# Altium schematic symbol library AngleVu.SchLib: 116 symbols
Pins are listed as number, name and electrical type; pins without a type are passive.

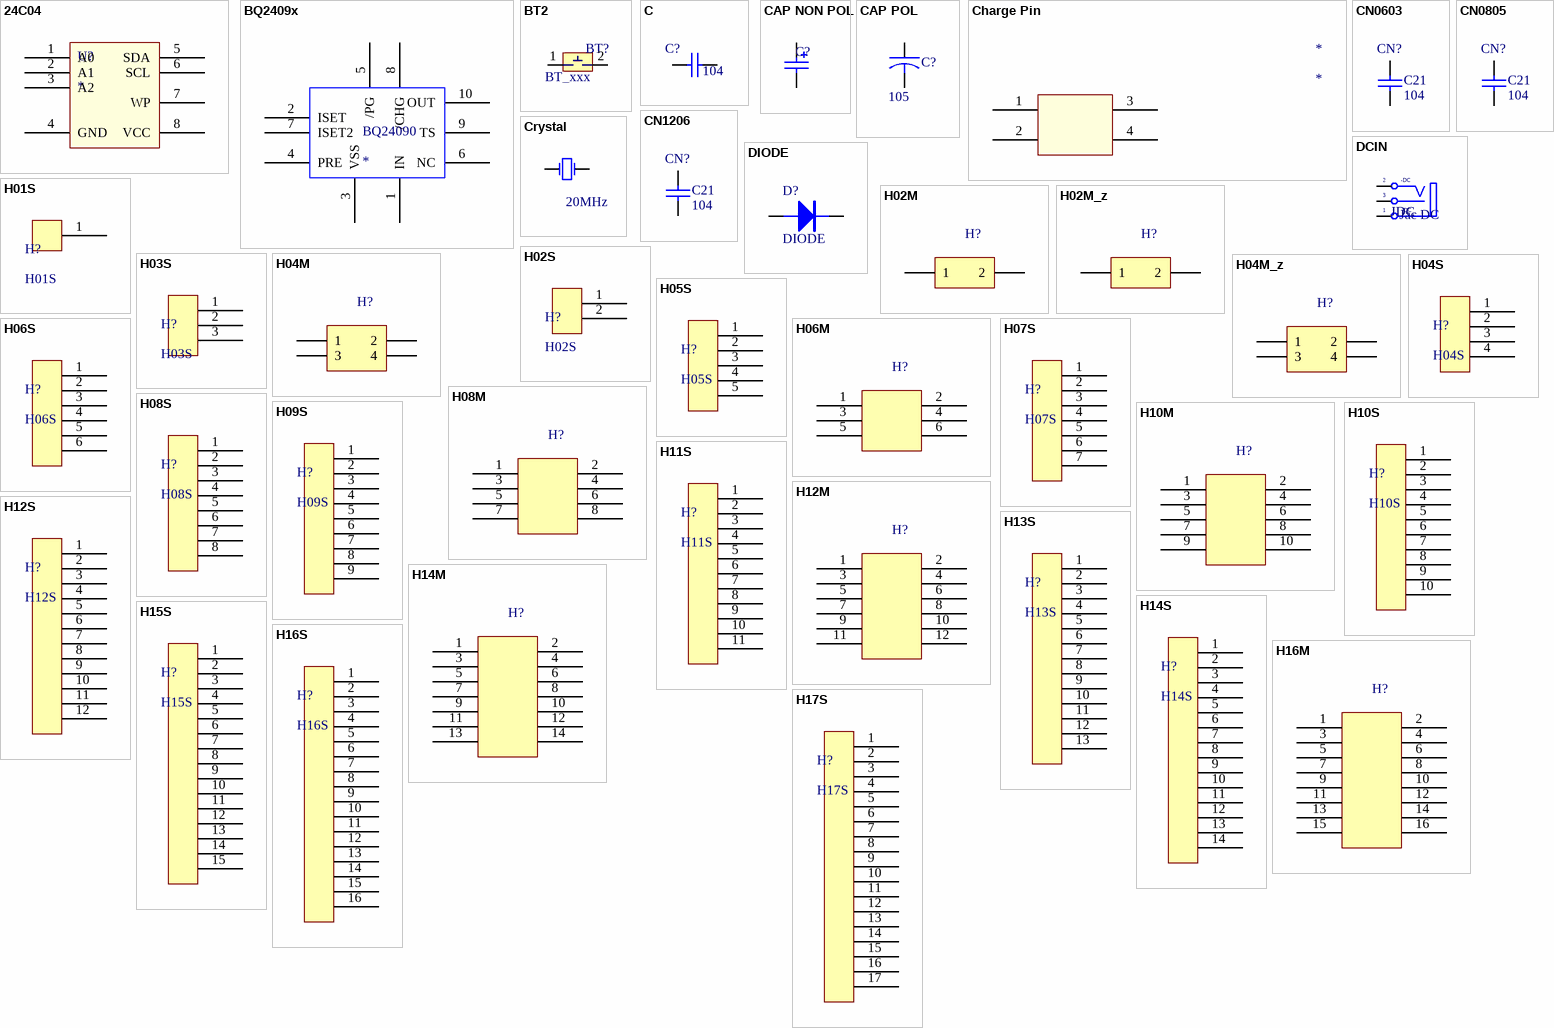
[diagram p0: symbols 24C04 to H17S]

## 24C04
designator U?
footprint 24C04SOIC
pins: 1 A0, 2 A1, 3 A2, 4 GND, 5 SDA, 6 SCL, 7 WP, 8 VCC

## BQ2409x
designator BQ24090
footprint BQ2409x
pins: 1 IN, 2 ISET, 3 VSS, 4 PRE, 5 /PG, 6 NC, 7 ISET2, 8 /CHG, 9 TS, 10 OUT

## BT2
designator BT?, comment BUTTON  (value not drawn)
footprint SW2-SMD (Switch SMD type)
pins: 1, 2
text: BT_xxx

## C
designator C?, comment value 104  (hidden comment: Value)
footprint C1206
footprint 0402
footprint 0805 (Compoment SMD 80x50mil)
pins: 1, 2

## CAP NON POL
designator C?  (value not drawn)
Polarized Capacitor (Surface Mount); VALUE: C?; Value: 1000pF/35V; LatestRevisionDate: 17-Jul-2002; LatestRevisionNote: Re-released for DXP Platform.; PackageReference: C0805; Publisher: Altium Limited
footprint 0805 (Compoment SMD 80x50mil)
pins: 1, 2
1 alternate drawing of the same symbol

## CAP POL
designator C?  value 105  (hidden comment: CAP POL)
Capacitor
footprint RA75
footprint RA50
footprint 1206
footprint 0805 (Compoment SMD 80x50mil)
footprint 0402
pins: 1, 2

## Charge Pin
designator *
pins: 1, 2  , 3  , 4  

## CN0603
designator C21, comment 104  value CN?
Capacitor (Semiconductor SIM Model); LatestRevisionDate: 17-Jul-2002; LatestRevisionNote: Re-released for DXP Platform.; PackageReference: C1206; Publisher: Altium Limited; Value: 104
footprint CNP
pins: 1, 2

## CN0805
designator C21, comment 104  value CN?
Capacitor (Semiconductor SIM Model); LatestRevisionDate: 17-Jul-2002; LatestRevisionNote: Re-released for DXP Platform.; PackageReference: C1206; Publisher: Altium Limited; Value: 104
footprint CNP
pins: 1, 2

## CN1206
designator C21, comment 104  value CN?
Capacitor (Semiconductor SIM Model); LatestRevisionDate: 17-Jul-2002; LatestRevisionNote: Re-released for DXP Platform.; PackageReference: C1206; Publisher: Altium Limited; Value: 104
footprint CNP
pins: 1, 2

## Crystal
designator Y?, comment 20MHz
Crystal Oscillator; Published: 8-Jun-2000; LatestRevisionDate: 17-Jul-2002; LatestRevisionNote: Re-released for DXP Platform.; PackageReference: R38; Publisher: Altium Limited
footprint XT2 (Footpin for Crystal 2 pin)
pins: 1 OSC1, 2 OSC2

## DCIN
designator JDC, comment Jac DC
Jac DC input; Value: Jac DC
footprint DC-IN (Jac DC input)
footprint DC-IN (Jac DC input)
pins: 1 T "Tip", 2 TN "Tip Normal (Break Contact)", 3 S (power) "Sleeve (Ground)"
text: -DC; +DC

## DIODE
designator D?
footprint SMB
pins: 1, 2

## H01S
designator H?
HEADER, SINGLE
footprint BIG_Header 2
footprint CON2
footprint Jack DC smd
pins: 1

## H02M
designator H?  (value not drawn)
HEADER, DOUBLE; LatestRevisionDate: 17-Jul-2002; LatestRevisionNote: Re-released for DXP Platform.; Publisher: Altium Limited
footprint HDR2X2 (Connector; Header; 2x2 Position)
signal-integrity model Connector
footprint Jum2
pins: 1, 2

## H02M_z
designator H?  (value not drawn)
HEADER, DOUBLE; LatestRevisionDate: 17-Jul-2002; LatestRevisionNote: Re-released for DXP Platform.; Publisher: Altium Limited
footprint H02M_z
pins: 1, 2

## H02S
designator H?
HEADER, SINGLE
footprint H02SA (HEADER, SINGLE, DISTANCE = 100mil)
pins: 1, 2

## H03S
designator H?
HEADER, SINGLE
footprint BIG_Header 2
footprint CON2
footprint Jack DC smd
pins: 1, 2, 3

## H04M
designator H?  (value not drawn)
HEADER, DOUBLE; LatestRevisionDate: 17-Jul-2002; LatestRevisionNote: Re-released for DXP Platform.; Publisher: Altium Limited
footprint HDR2X2 (Connector; Header; 2x2 Position)
signal-integrity model Connector
footprint Jum2
pins: 1, 2, 3, 4

## H04M_z
designator H?  (value not drawn)
HEADER, DOUBLE; LatestRevisionDate: 17-Jul-2002; LatestRevisionNote: Re-released for DXP Platform.; Publisher: Altium Limited
footprint H04M_z
pins: 1, 2, 3, 4

## H04S
designator H?
HEADER, SINGLE
footprint H04SA (HEADER, SINGLE, DISTANCE = 100mil)
pins: 1, 2, 3, 4

## H05S
designator H?
HEADER, SINGLE
footprint H05SA (HEADER, SINGLE, DISTANCE = 100mil)
pins: 1, 2, 3, 4, 5

## H06M
designator H?  (value not drawn)
HEADER, DOUBLE; LatestRevisionDate: 17-Jul-2002; LatestRevisionNote: Re-released for DXP Platform.; Publisher: Altium Limited
footprint H06MA (HEADER, DOUBLE, DISTANCE = 100mil)
footprint H06MA-1.6mm (HEADER, DOUBLE, DISTANCE = 100mil)
pins: 1, 2, 3, 4, 5, 6

## H06S
designator H?
HEADER, SINGLE
footprint H06SA (HEADER, SINGLE, DISTANCE = 100mil)
pins: 1, 2, 3, 4, 5, 6

## H07S
designator H?
HEADER, SINGLE
footprint BIG_Header 2
footprint CON2
footprint Jack DC smd
pins: 1, 2, 3, 4, 5, 6, 7

## H08M
designator H?  (value not drawn)
HEADER, DOUBLE; LatestRevisionDate: 17-Jul-2002; LatestRevisionNote: Re-released for DXP Platform.; Publisher: Altium Limited
footprint HDR2X2 (Connector; Header; 2x2 Position)
signal-integrity model Connector
footprint Jum2
pins: 1, 2, 3, 4, 5, 6, 7, 8

## H08S
designator H?
HEADER, SINGLE
footprint BIG_Header 2
footprint CON2
footprint Jack DC smd
pins: 1, 2, 3, 4, 5, 6, 7, 8

## H09S
designator H?
HEADER, SINGLE
footprint BIG_Header 2
footprint CON2
footprint Jack DC smd
pins: 1, 2, 3, 4, 5, 6, 7, 8, 9

## H10M
designator H?  (value not drawn)
HEADER, DOUBLE; LatestRevisionDate: 17-Jul-2002; LatestRevisionNote: Re-released for DXP Platform.; Publisher: Altium Limited
footprint HDR2X2 (Connector; Header; 2x2 Position)
signal-integrity model Connector
footprint Jum2
pins: 1, 2, 3, 4, 5, 6, 7, 8, 9, 10

## H10S
designator H?
HEADER, SINGLE
footprint BIG_Header 2
footprint CON2
footprint Jack DC smd
pins: 1, 2, 3, 4, 5, 6, 7, 8, 9, 10

## H11S
designator H?
HEADER, SINGLE
footprint BIG_Header 2
footprint CON2
footprint Jack DC smd
pins: 1, 2, 3, 4, 5, 6, 7, 8, 9, 10, 11

## H12M
designator H?  (value not drawn)
HEADER, DOUBLE; LatestRevisionDate: 17-Jul-2002; LatestRevisionNote: Re-released for DXP Platform.; Publisher: Altium Limited
footprint HDR2X2 (Connector; Header; 2x2 Position)
signal-integrity model Connector
footprint Jum2
pins: 1, 2, 3, 4, 5, 6, 7, 8, 9, 10, 11, 12

## H12S
designator H?
HEADER, SINGLE
footprint BIG_Header 2
footprint CON2
footprint Jack DC smd
pins: 1, 2, 3, 4, 5, 6, 7, 8, 9, 10, 11, 12

## H13S
designator H?
HEADER, SINGLE
footprint BIG_Header 2
footprint CON2
footprint Jack DC smd
pins: 1, 2, 3, 4, 5, 6, 7, 8, 9, 10, 11, 12, 13

## H14M
designator H?  (value not drawn)
HEADER, DOUBLE; LatestRevisionDate: 17-Jul-2002; LatestRevisionNote: Re-released for DXP Platform.; Publisher: Altium Limited
footprint HDR2X2 (Connector; Header; 2x2 Position)
signal-integrity model Connector
footprint Jum2
pins: 1, 2, 3, 4, 5, 6, 7, 8, 9, 10, 11, 12, 13, 14

## H14S
designator H?
HEADER, SINGLE
footprint BIG_Header 2
footprint CON2
footprint Jack DC smd
pins: 1, 2, 3, 4, 5, 6, 7, 8, 9, 10, 11, 12, 13, 14

## H15S
designator H?
HEADER, SINGLE
footprint BIG_Header 2
footprint CON2
footprint Jack DC smd
pins: 1, 2, 3, 4, 5, 6, 7, 8, 9, 10, 11, 12, 13, 14, 15

## H16M
designator H?  (value not drawn)
HEADER, DOUBLE; LatestRevisionDate: 17-Jul-2002; LatestRevisionNote: Re-released for DXP Platform.; Publisher: Altium Limited
footprint HDR2X2 (Connector; Header; 2x2 Position)
signal-integrity model Connector
footprint Jum2
pins: 1, 2, 3, 4, 5, 6, 7, 8, 9, 10, 11, 12, 13, 14, 15, 16

## H16S
designator H?
HEADER, SINGLE
footprint BIG_Header 2
footprint CON2
footprint Jack DC smd
pins: 1, 2, 3, 4, 5, 6, 7, 8, 9, 10, 11, 12, 13, 14, 15, 16

## H17S
designator H?
HEADER, SINGLE
footprint BIG_Header 2
footprint CON2
footprint Jack DC smd
pins: 1, 2, 3, 4, 5, 6, 7, 8, 9, 10, 11, 12, 13, 14, 15, 16, 17

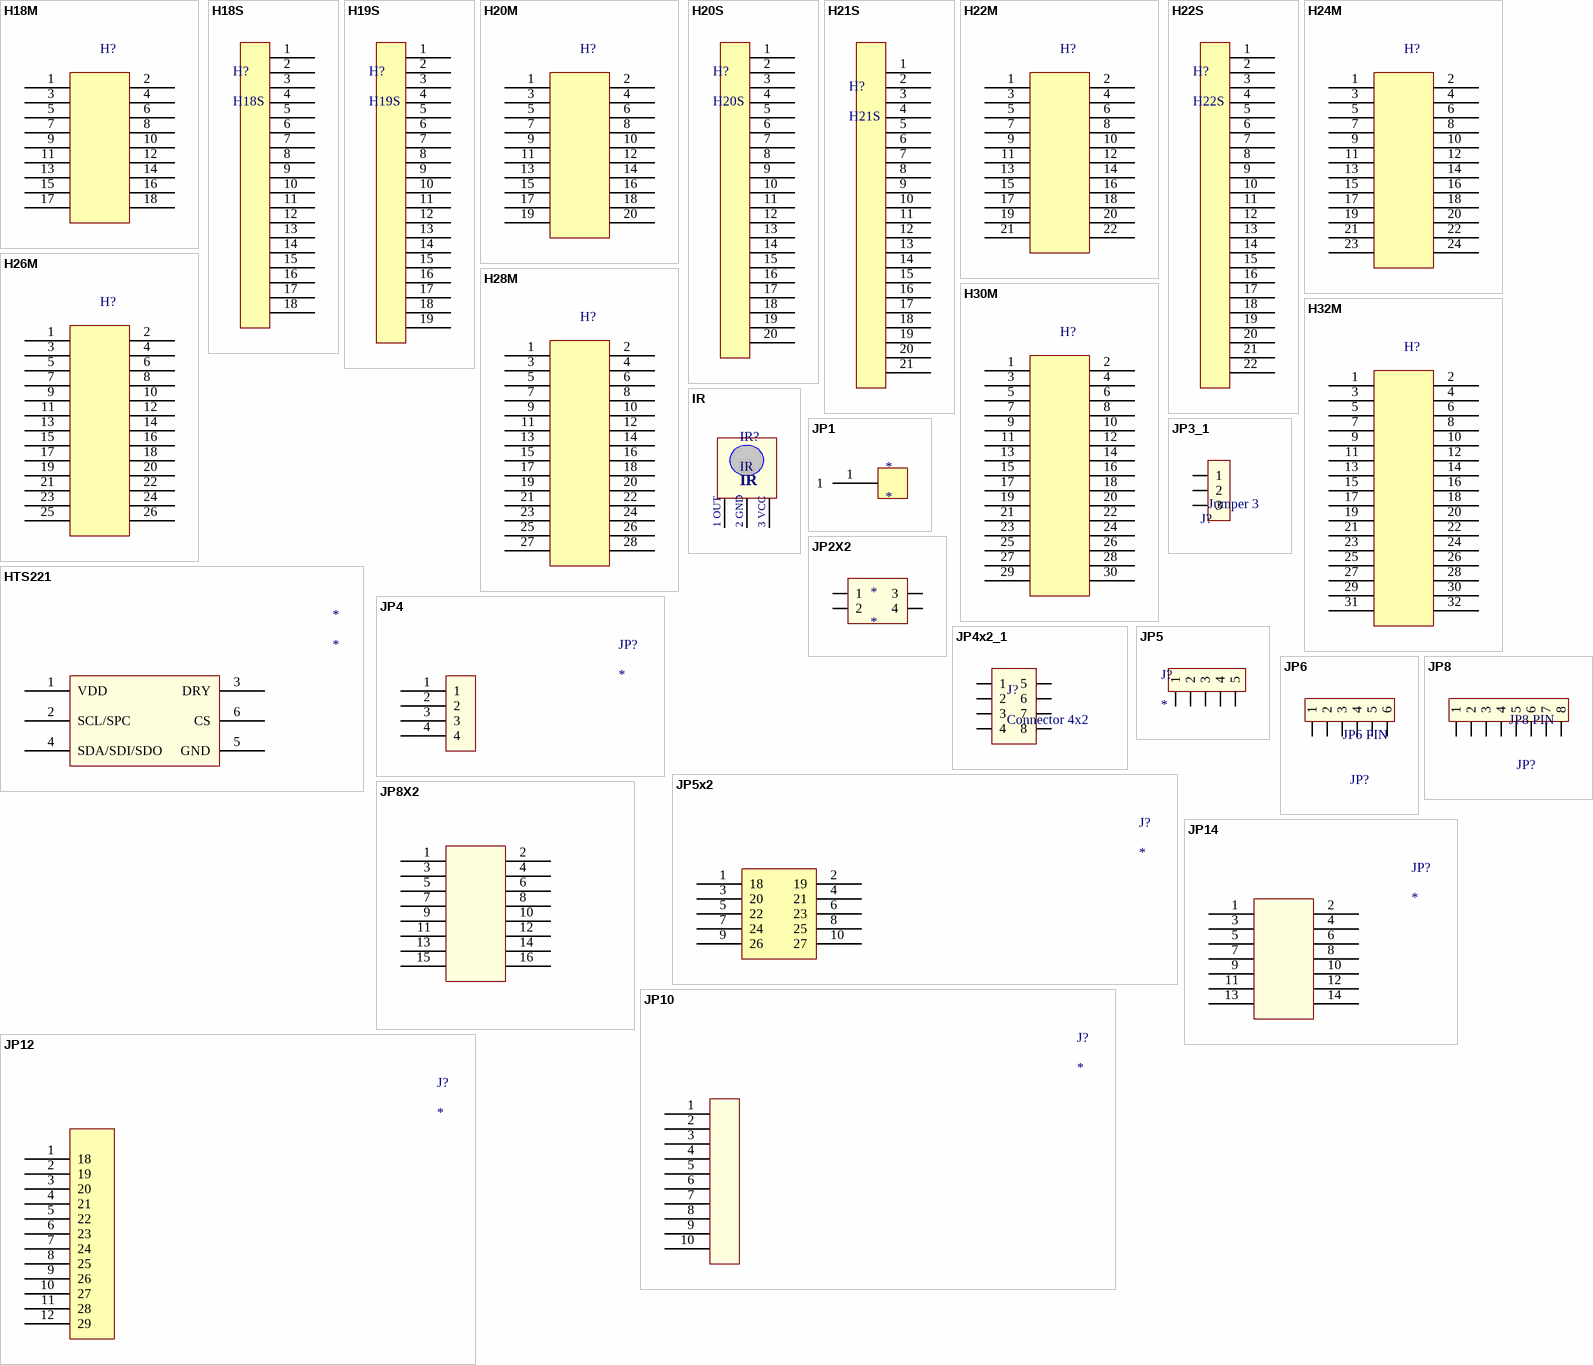
[diagram p1: symbols H18M to JP14]

## H18M
designator H?  (value not drawn)
HEADER, DOUBLE; LatestRevisionDate: 17-Jul-2002; LatestRevisionNote: Re-released for DXP Platform.; Publisher: Altium Limited
footprint HDR2X2 (Connector; Header; 2x2 Position)
signal-integrity model Connector
footprint Jum2
pins: 1, 2, 3, 4, 5, 6, 7, 8, 9, 10, 11, 12, 13, 14, 15, 16, 17, 18

## H18S
designator H?
HEADER, SINGLE
footprint BIG_Header 2
footprint CON2
footprint Jack DC smd
pins: 1, 2, 3, 4, 5, 6, 7, 8, 9, 10, 11, 12, 13, 14, 15, 16, 17, 18

## H19S
designator H?
HEADER, SINGLE
footprint BIG_Header 2
footprint CON2
footprint Jack DC smd
pins: 1, 2, 3, 4, 5, 6, 7, 8, 9, 10, 11, 12, 13, 14, 15, 16, 17, 18, 19

## H20M
designator H?  (value not drawn)
HEADER, DOUBLE; LatestRevisionDate: 17-Jul-2002; LatestRevisionNote: Re-released for DXP Platform.; Publisher: Altium Limited
footprint HDR2X2 (Connector; Header; 2x2 Position)
signal-integrity model Connector
footprint Jum2
pins: 1, 2, 3, 4, 5, 6, 7, 8, 9, 10, 11, 12, 13, 14, 15, 16, 17, 18, 19, 20

## H20S
designator H?
HEADER, SINGLE
footprint BIG_Header 2
footprint CON2
footprint Jack DC smd
pins: 1, 2, 3, 4, 5, 6, 7, 8, 9, 10, 11, 12, 13, 14, 15, 16, 17, 18, 19, 20

## H21S
designator H?
HEADER, SINGLE
footprint BIG_Header 2
footprint CON2
footprint Jack DC smd
pins: 1, 2, 3, 4, 5, 6, 7, 8, 9, 10, 11, 12, 13, 14, 15, 16, 17, 18, 19, 20, 21

## H22M
designator H?  (value not drawn)
HEADER, DOUBLE; LatestRevisionDate: 17-Jul-2002; LatestRevisionNote: Re-released for DXP Platform.; Publisher: Altium Limited
footprint HDR2X2 (Connector; Header; 2x2 Position)
signal-integrity model Connector
footprint Jum2
pins: 1, 2, 3, 4, 5, 6, 7, 8, 9, 10, 11, 12, 13, 14, 15, 16, 17, 18, 19, 20, 21, 22

## H22S
designator H?
HEADER, SINGLE
footprint BIG_Header 2
footprint CON2
footprint Jack DC smd
pins: 1, 2, 3, 4, 5, 6, 7, 8, 9, 10, 11, 12, 13, 14, 15, 16, 17, 18, 19, 20, 21, 22

## H24M
designator H?  (value not drawn)
HEADER, DOUBLE; LatestRevisionDate: 17-Jul-2002; LatestRevisionNote: Re-released for DXP Platform.; Publisher: Altium Limited
footprint HDR2X2 (Connector; Header; 2x2 Position)
signal-integrity model Connector
footprint Jum2
pins: 1, 2, 3, 4, 5, 6, 7, 8, 9, 10, 11, 12, 13, 14, 15, 16, 17, 18, 19, 20, 21, 22, 23, 24

## H26M
designator H?  (value not drawn)
HEADER, DOUBLE; LatestRevisionDate: 17-Jul-2002; LatestRevisionNote: Re-released for DXP Platform.; Publisher: Altium Limited
footprint HDR2X2 (Connector; Header; 2x2 Position)
signal-integrity model Connector
footprint Jum2
pins: 1, 2, 3, 4, 5, 6, 7, 8, 9, 10, 11, 12, 13, 14, 15, 16, 17, 18, 19, 20, 21, 22, 23, 24, 25, 26

## H28M
designator H?  (value not drawn)
HEADER, DOUBLE; LatestRevisionDate: 17-Jul-2002; LatestRevisionNote: Re-released for DXP Platform.; Publisher: Altium Limited
footprint HDR2X2 (Connector; Header; 2x2 Position)
signal-integrity model Connector
footprint Jum2
pins: 1, 2, 3, 4, 5, 6, 7, 8, 9, 10, 11, 12, 13, 14, 15, 16, 17, 18, 19, 20, 21, 22, 23, 24, 25, 26, 27, 28

## H30M
designator H?  (value not drawn)
HEADER, DOUBLE; LatestRevisionDate: 17-Jul-2002; LatestRevisionNote: Re-released for DXP Platform.; Publisher: Altium Limited
footprint HDR2X2 (Connector; Header; 2x2 Position)
signal-integrity model Connector
footprint Jum2
pins: 1, 2, 3, 4, 5, 6, 7, 8, 9, 10, 11, 12, 13, 14, 15, 16, 17, 18, 19, 20, 21, 22, 23, 24, 25, 26, 27, 28, 29, 30

## H32M
designator H?  (value not drawn)
HEADER, DOUBLE; LatestRevisionDate: 17-Jul-2002; LatestRevisionNote: Re-released for DXP Platform.; Publisher: Altium Limited
footprint HDR2X2 (Connector; Header; 2x2 Position)
signal-integrity model Connector
footprint Jum2
pins: 1, 2, 3, 4, 5, 6, 7, 8, 9, 10, 11, 12, 13, 14, 15, 16, 17, 18, 19, 20, 21, 22, 23, 24, 25, 26, 27, 28, 29, 30, 31, 32

## HTS221
designator *
footprint HTS221
pins: 1 VDD, 2 SCL/SPC, 3 DRY, 4 SDA/SDI/SDO, 5 GND, 6 CS

## IR
designator IR?
Receiver Infraed IC
footprint IR (Receiver Infared IC)
pins: 1 Out, 2 GND, 3 VCC
text: 1 OUT; 2 GND; 3 VCC

## JP1
designator *
pins: 1

## JP2X2
designator *
pins: 1, 2, 3, 4

## JP3_1
designator J?, comment Jumper 3
Value: J3
footprint JP3 (Jumper 3)
footprint JP3_SMD
pins: 1, 2, 3

## JP4
designator JP?
footprint JP4_SMD
footprint JP4 (Jumper 4)
pins: 1, 2, 3, 4

## JP4x2_1
designator J?, comment Connector 4x2
Value: Connector 4x2
footprint JP4x2 (Connector 4x2)
footprint jum4
pins: 1, 2, 3, 4, 5, 6, 7, 8

## JP5
designator J?
footprint JP5
pins: 1, 2, 3, 4, 5

## JP5x2
designator J?
footprint JP5x2_SMD
pins: 1 18, 2 19, 3 20, 4 21, 5 22, 6 23, 7 24, 8 25, 9 26, 10 27

## JP6
designator JP?, comment JP6 PIN
Value: JP7
footprint JP6
footprint JP6H
footprint JP6_SMD
pins: 1, 2, 3, 4, 5, 6

## JP8
designator JP?, comment JP8 PIN
Value: JP7
footprint JP8
footprint JP8H
footprint JP8_SMD
pins: 1, 2, 3, 4, 5, 6, 7, 8

## JP8X2
designator J?
footprint JUMPER16
footprint jum8
pins: 1  , 2  , 3  , 4  , 5  , 6  , 7  , 8  , 9  , 10  , 11  , 12  , 13  , 14  , 15  , 16  

## JP10
designator J?
footprint JP10_SMD
pins: 1  , 2  , 3  , 4  , 5  , 6  , 7  , 8  , 9  , 10  

## JP12
designator J?
footprint JP12_SMD
pins: 1 18, 2 19, 3 20, 4 21, 5 22, 6 23, 7 24, 8 25, 9 26, 10 27, 11 28, 12 29

## JP14
designator JP?
footprint JP14
footprint JUMPER14
footprint jum7
pins: 1  , 2  , 3  , 4  , 5  , 6  , 7  , 8  , 9  , 10  , 11  , 12  , 13  , 14  

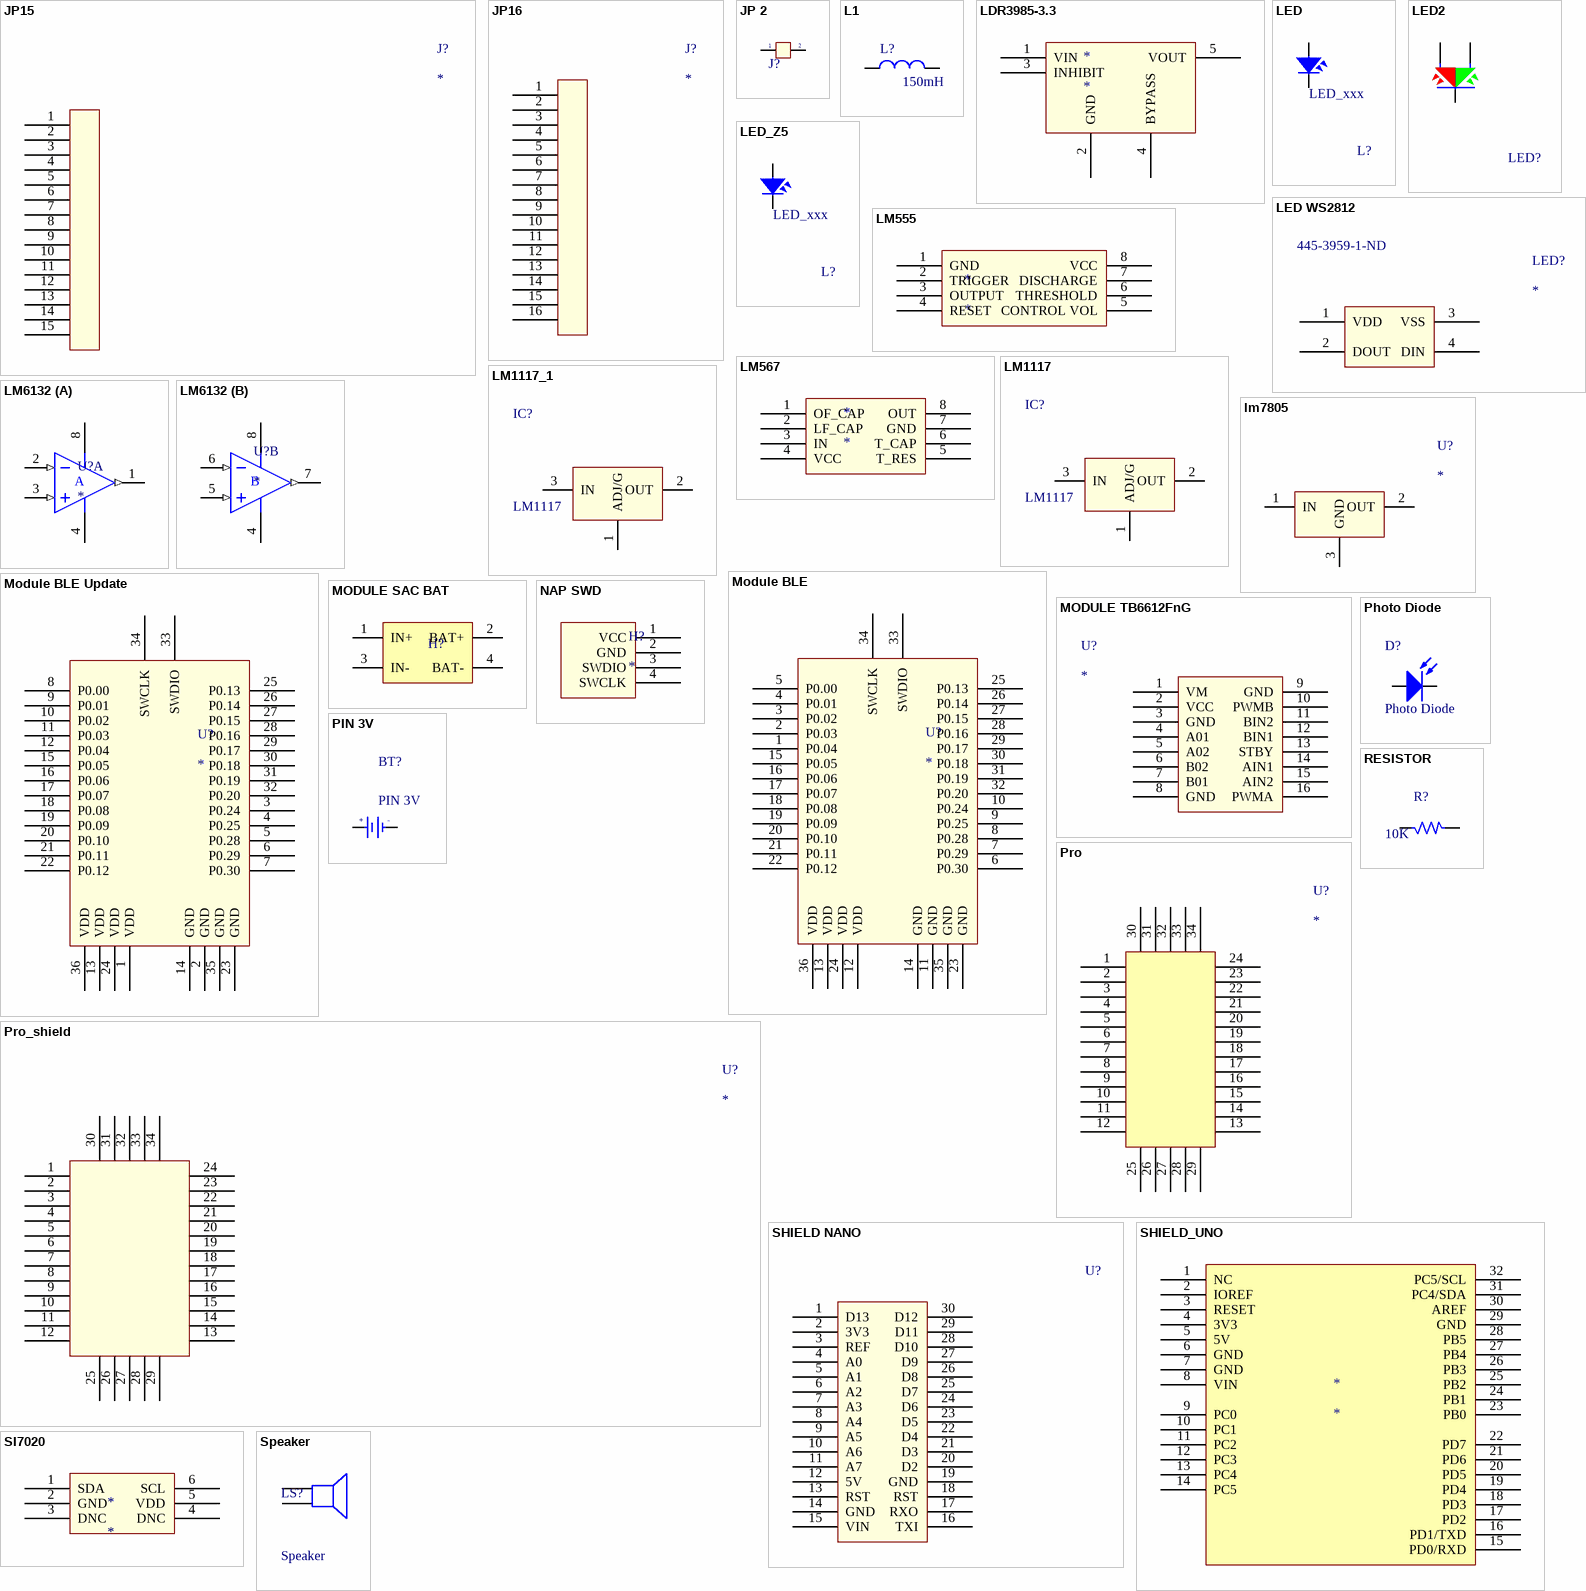
[diagram p2: symbols JP15 to Speaker]

## JP15
designator J?
footprint JP15_SMD
pins: 1  , 2  , 3  , 4  , 5  , 6  , 7  , 8  , 9  , 10  , 11  , 12  , 13  , 14  , 15  

## JP16
designator J?
footprint JP16 (JP8)
pins: 1  , 2  , 3  , 4  , 5  , 6  , 7  , 8  , 9  , 10  , 11  , 12  , 13  , 14  , 15  , 16

## JP 2
designator J?, comment Jumper 2  (value not drawn)
Value: JP 2
footprint JP2
footprint Jum
footprint 0805
pins: 1, 2

## L1
designator L?, comment 150mH
Inductor; Value: 150 mH
footprint L/0.4 (Inductor , 2 Pin, L 350mil, W 150 mil)
footprint L01 (Inductor)
footprint 0805
pins: 1, 2

## LDR3985-3.3
designator *
footprint LDR3985-3.3 (SOT23, 5-Leads, Body 2.90x2.80mm, Pitch 0.95mm, IPC Medium Density)
pins: 1 VIN, 2 GND, 3 INHIBIT, 4 BYPASS, 5 VOUT

## LED
designator L?  value LED_xxx  (hidden comment: LED)
LED Single colour Green and Red
footprint 0805 (Compoment SMD 80x50mil)
pins: 1, 2

## LED2
designator LED?, comment LED  (value not drawn)
LED 2 colour Green and Red; Value: LED 3 - 5 ly 2 Colour
footprint LED-32 (LED 3 PIN, 3ly Two colour)
footprint LED-52 (LED 3 PIN, 5 ly , Two colour)
pins: 1, 2, 3

## LED WS2812
designator LED?  Supplier Part Number: 445-3959-1-ND
Manufacturer Part Number: ACT45B-101-2P-TL003; Manufacturer: TDK Corporation; Filter Type: Data, Signal Line; Inductance: 100µH; DC Resistance (DCR): 2 Ohm Max; Current: 150mA; Impedance: 5.8 kOhm; Number of Lines: 2; Supplier: Digi-Key; Height (Max): 0.118" (3.00mm); Operating Temperature: -40°C ~ 150°C; RoHS: RoHS Compliant; Package / Case: Horizontal, 4 PC Pad; Packaging: Cut Tape (CT); Size / Dimension: 0.177" L x 0.126" W (4.50mm x 3.20mm); Mounting Type: Surface Mount; Category: Filters
footprint Led rgb smd
pins: 1 VDD, 2 DOUT, 3 VSS, 4 DIN

## LED_Z5
designator L?  value LED_xxx  (hidden comment: LED_Z5)
LED Single colour Green and Red
footprint LED_Z5 (LED phi 5mm)
pins: 1, 2

## LM555
designator *
pins: 1 GND, 2 TRIGGER, 3 OUTPUT, 4 RESET, 5 CONTROL VOL, 6 THRESHOLD, 7 DISCHARGE, 8 VCC

## LM567
designator *
pins: 1 OF_CAP, 2 LF_CAP, 3 IN, 4 VCC, 5 T_RES, 6 T_CAP, 7 GND, 8 OUT

## LM1117
designator IC?
Available in 1.8V, 2.5V, 2.85V, 3.3V, 5V, and  Adjustable Versions; Value: LM317
footprint SOT223-4N (SOT223, 4-Leads, Body 6.5x3.5mm, Pitch 2.3mm, Lead Span 7mm, IPC Medium Density)
pins: 1 ADJ/G, 2 OUT, 3 IN

## LM1117_1
designator IC?, comment LM1117
Available in 1.8V, 2.5V, 2.85V, 3.3V, 5V, and  Adjustable Versions; Value: LM317
footprint SOT223-4N (SOT223, 4-Leads, Body 6.5x3.5mm, Pitch 2.3mm, Lead Span 7mm, IPC Medium Density)
pins: 1 ADJ/G, 2 OUT, 3 IN

## LM6132
designator U?
part A pins: 1 OUT (out), 2 IN- (in), 3 IN+ (in), 4 V- (power), 8 V+ (power)
part B pins: 4 V- (power), 5 IN+ (in), 6 IN- (in), 7 OUT (out), 8 V+ (power)
part A text: A
part B text: B

## lm7805
designator U?
footprint TO252AA
pins: 1 IN, 2 OUT, 3 GND

## Module BLE
designator U?
footprint Module Ble
pins: 1 P0.04, 2 P0.03, 3 P0.02, 4 P0.01, 5 P0.00, 6 P0.30, 7 P0.29, 8 P0.28, 9 P0.25, 10 P0.24, 11 GND, 12 VDD, 13 VDD, 14 GND, 15 P0.05, 16 P0.06, 17 P0.07, 18 P0.08, 19 P0.09, 20 P0.10, 21 P0.11, 22 P0.12, 23 GND, 24 VDD, 25 P0.13, 26 P0.14, 27 P0.15, 28 P0.16, 29 P0.17, 30 P0.18, 31 P0.19, 32 P0.20, 33 SWDIO, 34 SWCLK, 35 GND, 36 VDD

## Module BLE Update
designator U?
footprint Module Ble
pins: 1 VDD, 2 GND, 3 P0.24, 4 P0.25, 5 P0.28, 6 P0.29, 7 P0.30, 8 P0.00, 9 P0.01, 10 P0.02, 11 P0.03, 12 P0.04, 13 VDD, 14 GND, 15 P0.05, 16 P0.06, 17 P0.07, 18 P0.08, 19 P0.09, 20 P0.10, 21 P0.11, 22 P0.12, 23 GND, 24 VDD, 25 P0.13, 26 P0.14, 27 P0.15, 28 P0.16, 29 P0.17, 30 P0.18, 31 P0.19, 32 P0.20, 33 SWDIO, 34 SWCLK, 35 GND, 36 VDD

## MODULE SAC BAT
designator H?  (value not drawn)
HEADER, DOUBLE; LatestRevisionDate: 17-Jul-2002; LatestRevisionNote: Re-released for DXP Platform.; Publisher: Altium Limited
footprint MODULE SAC (HEADER, DOUBLE, DISTANCE = 100mil)
pins: 1 IN+, 2 BAT+, 3 IN-, 4 BAT-

## MODULE TB6612FnG
designator U?
footprint TB6612FNG
pins: 1 VM, 2 VCC, 3 GND, 4 A01, 5 A02, 6 B02, 7 B01, 8 GND, 9 GND, 10 PWMB, 11 BIN2, 12 BIN1, 13 STBY, 14 AIN1, 15 AIN2, 16 PWMA

## NAP SWD
designator H?
footprint H04SA (HEADER, SINGLE, DISTANCE = 100mil)
pins: 1 VCC, 2 GND, 3 SWDIO, 4 SWCLK

## Photo Diode
designator D?
Photosensitive Diode
footprint LED-5 GRe (LED 2 PIN, 5 ly , Only colour,pin to pin 100mil)
pins: 1 A, 2 K

## PIN 3V
designator BT?
Battery 3VDC; Value: PIN 3V
footprint BAT_CR2032_SMD003
pins: 1 +3V, 2 GND
text: +; -

## Pro
designator U?
footprint pro
pins: 1 35, 2 36, 3 37, 4 38, 5 39, 6 40, 7 41, 8 42, 9 43, 10 44, 11 45, 12 46, 13 47, 14 48, 15 49, 16 50, 17 51, 18 52, 19 53, 20 54, 21 55, 22 56, 23 57, 24 58, 25 59, 26 60, 27 61, 28 62, 29 63, 30 64, 31 65, 32 66, 33 67, 34 68

## Pro_shield
designator U?
footprint Pro_shield
pins: 1 35, 2 36, 3 37, 4 38, 5 39, 6 40, 7 41, 8 42, 9 43, 10 44, 11 45, 12 46, 13 47, 14 48, 15 49, 16, 17, 18, 19, 20, 21, 22, 23, 24, 25, 26, 27, 28, 29, 30, 31, 32, 33, 34

## RESISTOR
designator R?  value 10K
Resistor 1/4W
footprint SM-1206 (Compoment SMD 120x60mil)
footprint R1/8W (R 1/8W, 2 pin, 300mil)
footprint R1/4W (R 1/4W, 2 Pin, 350mil)
footprint R1/4WD (R 1/4W, 2 Pin, 150mil)
footprint DIEN TRO 1/4 W
footprint R1/6W
footprint 0805
pins: 1, 2

## SHIELD NANO
designator U?  (value not drawn)
footprint Nano_shield
pins: 1 D13, 2 3V3, 3 REF, 4 A0, 5 A1, 6 A2, 7 A3, 8 A4, 9 A5, 10 A6, 11 A7, 12 5V, 13 RST, 14 GND, 15 VIN, 16 TXI, 17 RXO, 18 RST, 19 GND, 20 D2, 21 D3, 22 D4, 23 D5, 24 D6, 25 D7, 26 D8, 27 D9, 28 D10, 29 D11, 30 D12

## SHIELD_UNO
designator *
pins: 1 NC, 2 IOREF, 3 RESET, 4 3V3, 5 5V, 6 GND, 7 GND, 8 VIN, 9 PC0, 10 PC1, 11 PC2, 12 PC3, 13 PC4, 14 PC5, 15 PD0/RXD, 16 PD1/TXD, 17 PD2, 18 PD3, 19 PD4, 20 PD5, 21 PD6, 22 PD7, 23 PB0, 24 PB1, 25 PB2, 26 PB3, 27 PB4, 28 PB5, 29 GND, 30 AREF, 31 PC4/SDA, 32 PC5/SCL

## SI7020
designator *
footprint SI7020 (DFN, 4-Leads, Body 3.00x3.00mm, Pitch 0.65mm, IPC Medium Density)
pins: 1 SDA, 2 GND, 3 DNC, 4 DNC, 5 VDD, 6 SCL

## Speaker
designator LS?
Loudspeaker; Published: 24-Mar-1999; LatestRevisionDate: 17-Jul-2002; LatestRevisionNote: Re-released for DXP Platform.; PackageReference: PIN2; Publisher: Altium Limited
footprint SP1 (Speaker Telphone on Broad)
footprint SPK (Speaker Chip)
footprint SPEAKER
pins: 1, 2

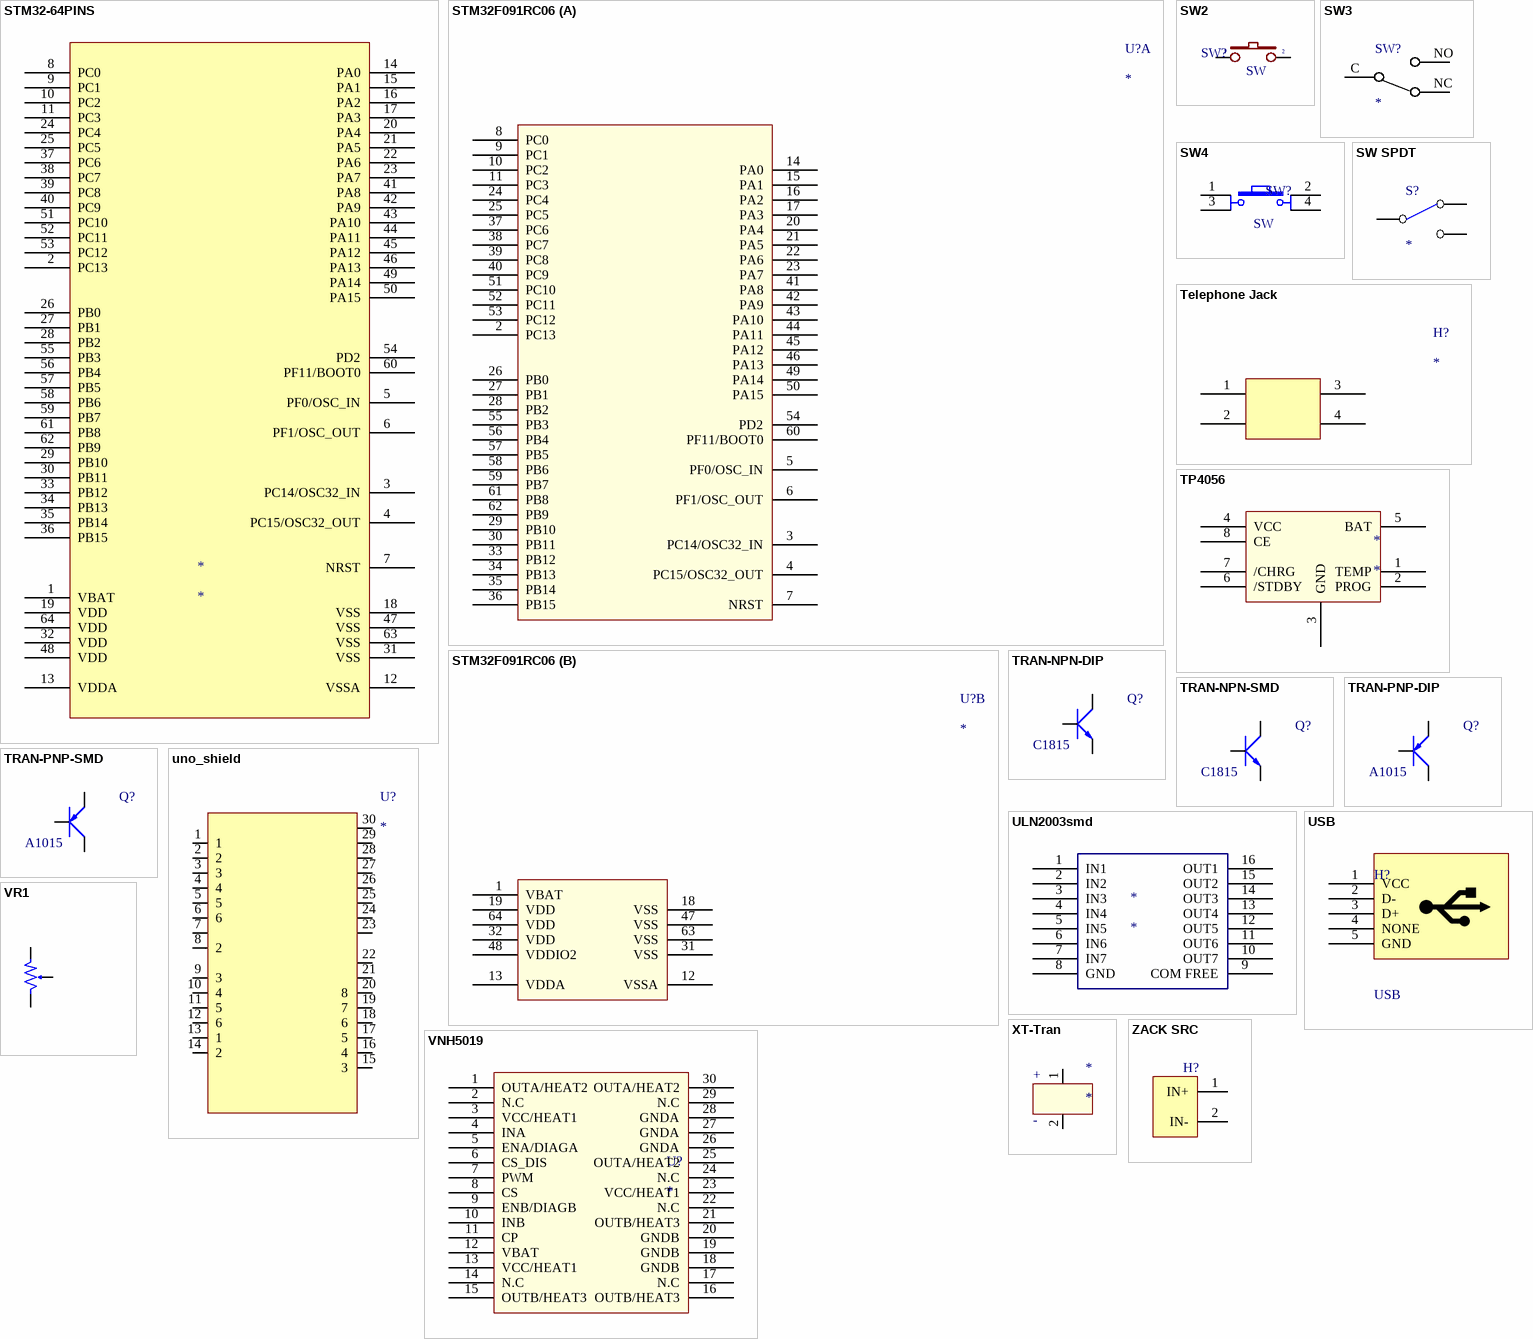
[diagram p3: symbols STM32-64PINS to ZACK SRC]

## STM32-64PINS
designator *
footprint LQFP64Pins
pins: 1 VBAT, 2 PC13, 3 PC14/OSC32_IN, 4 PC15/OSC32_OUT, 5 PF0/OSC_IN, 6 PF1/OSC_OUT, 7 NRST, 8 PC0, 9 PC1, 10 PC2, 11 PC3, 12 VSSA, 13 VDDA, 14 PA0, 15 PA1, 16 PA2, 17 PA3, 18 VSS, 19 VDD, 20 PA4, 21 PA5, 22 PA6, 23 PA7, 24 PC4, 25 PC5, 26 PB0, 27 PB1, 28 PB2, 29 PB10, 30 PB11, 31 VSS, 32 VDD, 33 PB12, 34 PB13, 35 PB14, 36 PB15, 37 PC6, 38 PC7, 39 PC8, 40 PC9, 41 PA8, 42 PA9, 43 PA10, 44 PA11, 45 PA12, 46 PA13, 47 VSS, 48 VDD, 49 PA14, 50 PA15, 51 PC10, 52 PC11, 53 PC12, 54 PD2, 55 PB3, 56 PB4, 57 PB5, 58 PB6, 59 PB7, 60 PF11/BOOT0, 61 PB8, 62 PB9, 63 VSS, 64 VDD

## STM32F091RC06
designator U?
footprint LQFP64_L (Thin QFP, 64-Leads, Body 10x10mm, Pitch 0.5mm, IPC High Density)
part A pins: 2 PC13, 3 PC14/OSC32_IN, 4 PC15/OSC32_OUT, 5 PF0/OSC_IN, 6 PF1/OSC_OUT, 7 NRST, 8 PC0, 9 PC1, 10 PC2, 11 PC3, 14 PA0, 15 PA1, 16 PA2, 17 PA3, 20 PA4, 21 PA5, 22 PA6, 23 PA7, 24 PC4, 25 PC5, 26 PB0, 27 PB1, 28 PB2, 29 PB10, 30 PB11, 33 PB12, 34 PB13, 35 PB14, 36 PB15, 37 PC6, 38 PC7, 39 PC8, 40 PC9, 41 PA8, 42 PA9, 43 PA10, 44 PA11, 45 PA12, 46 PA13, 49 PA14, 50 PA15, 51 PC10, 52 PC11, 53 PC12, 54 PD2, 55 PB3, 56 PB4, 57 PB5, 58 PB6, 59 PB7, 60 PF11/BOOT0, 61 PB8, 62 PB9
part B pins: 1 VBAT, 12 VSSA, 13 VDDA, 18 VSS, 19 VDD, 31 VSS, 32 VDD, 47 VSS, 48 VDDIO2, 63 VSS, 64 VDD

## SW2
designator SW?, comment SW
Switch button 2 pin; Value: SW chip 2 pin
footprint SW2 (SW button 2pin, 250x 250 mil)
pins: 1, 2

## SW3
designator SW?
pins: C, NC, NO

## SW4
designator SW?, comment SW
Switch button 4 pin; Value: Button chip 4 pin
footprint SW4 (SW button 4pin, 250 x250 mil)
footprint SW4B (SW button 4pin, 450 x 450 mil)
pins: 1, 2, 3, 4

## SW SPDT
designator S?
footprint Switch
pins: 1 NC, 2 COMMON, 3 NO

## Telephone Jack
designator H?
footprint Telephone Jack
pins: 1, 2, 3, 4

## TP4056
designator *
footprint TP4056 (SOP, 8-Leads, Body 4.90x3.90mm, Pitch 1.27mm, IPC Medium Density)
pins: 1 TEMP, 2 PROG, 3 GND, 4 VCC, 5 BAT, 6 /STDBY, 7 /CHRG, 8 CE

## TRAN-NPN-DIP
designator Q?  value C1815
NPN 600mW, ECB
footprint TRAN-NPN-DIP (TO, Flat Index; 3 In-Line, Axial Leads; Body Dia. 4.5mm; Leads 0.51 x 0.48 mm (max))
pins: 1 E, 2 C, 3 B

## TRAN-NPN-SMD
designator Q?  value C1815
NPN 600mW, ECB
footprint TRAN-NPN-SMD (SOT-23; 3 Leads; Body 3.0 x 2.5 mm, inc. leads (LxW max))
pins: 1 B, 2 E, 3 C

## TRAN-PNP-DIP
designator Q?  value A1015
PNP 600mW, ECB
footprint TRAN-PNP-DIP (TO, Flat Index; 3 In-Line, Axial Leads; Body Dia. 4.5mm; Leads 0.51 x 0.48 mm (max))
pins: 1 E, 2 C, 3 B

## TRAN-PNP-SMD
designator Q?  value A1015
PNP 600mW, ECB
footprint TRAN-PNP-SMD (SOT-23; 3 Leads; Body 3.0 x 2.5 mm, inc. leads (LxW max))
pins: 1 E, 2 C, 3 B

## ULN2003smd
designator *
footprint ULN2003-smd16P (Small Outline; 16 Leads; Body Width 5.6 mm; Pitch 1.27 mm)
pins: 1 IN1, 2 IN2, 3 IN3, 4 IN4, 5 IN5, 6 IN6, 7 IN7, 8 GND, 9 COM FREE, 10 OUT7, 11 OUT6, 12 OUT5, 13 OUT4, 14 OUT3, 15 OUT2, 16 OUT1

## uno_shield
designator U?
footprint Uno_shield
footprint Uno_shield _bottom
footprint Uno_sheld_dip
pins: 1, 2, 3, 4, 5, 6, 7 1, 8 2, 9 3, 10 4, 11 5, 12 6, 13 1, 14 2, 15 3, 16 4, 17 5, 18 6, 19 7, 20 8, 21  , 22  , 23  , 24  , 25  , 26  , 27  , 28  , 29  , 30  

## USB
designator H?
USB conector
footprint USB-B-Mini
footprint Micro_USB
pins: 0 6 hidden, 1 VCC, 2 D-, 3 D+, 4 NONE, 5 GND

## VNH5019
designator U?
footprint SO30
pins: 1 OUTA/HEAT2, 2 N.C, 3 VCC/HEAT1, 4 INA, 5 ENA/DIAGA, 6 CS_DIS, 7 PWM, 8 CS, 9 ENB/DIAGB, 10 INB, 11 CP, 12 VBAT, 13 VCC/HEAT1, 14 N.C, 15 OUTB/HEAT3, 16 OUTB/HEAT3, 17 N.C, 18 GNDB, 19 GNDB, 20 GNDB, 21 OUTB/HEAT3, 22 N.C, 23 VCC/HEAT1, 24 N.C, 25 OUTA/HEAT2, 26 GNDA, 27 GNDA, 28 GNDA, 29 N.C, 30 OUTA/HEAT2

## VR1
designator VR?, comment 10K
Var Resistor; Value: VR 10K
footprint VR (Resistor Variable)
pins: 1, 2, 3

## XT-Tran
designator *
pins: 1, 2
text: +; -

## ZACK SRC
designator H?  (value not drawn)
HEADER, DOUBLE; LatestRevisionDate: 17-Jul-2002; LatestRevisionNote: Re-released for DXP Platform.; Publisher: Altium Limited
footprint ZACK SRC (HEADER, SINGLE, DISTANCE = 100mil)
pins: 1 IN+, 2 IN-